# EAGLE library part CY62167EV30 (library pixel)
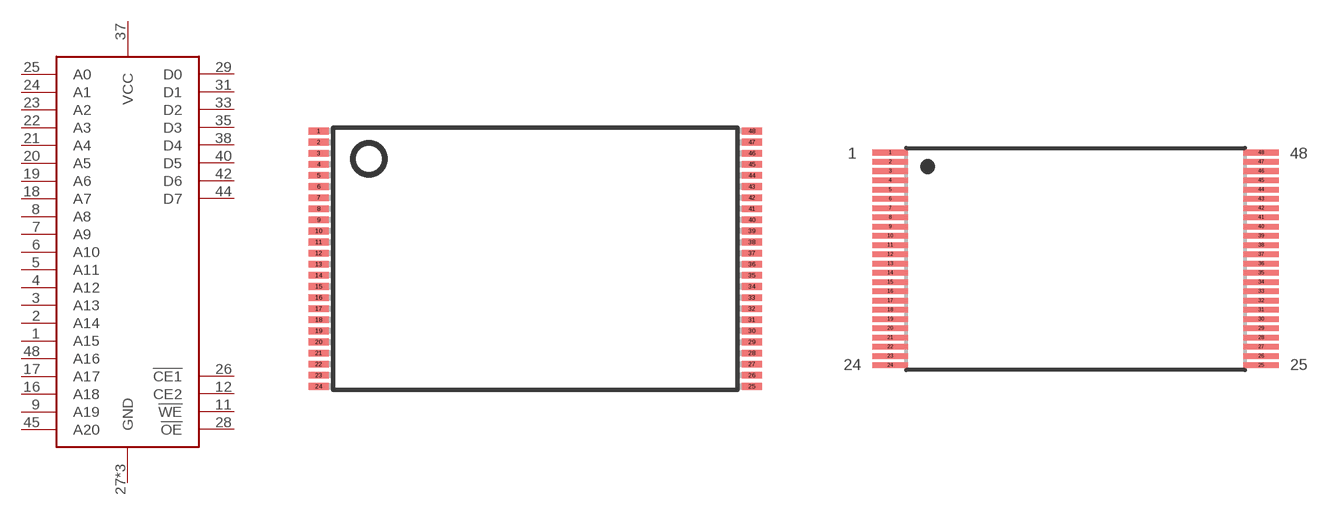
[diagram p0: symbol with the pads of TSOP48; footprints TSOP48, TSOP48-LL]

Designator prefix -

## CY62167EV30  [TSOP48]
1  A15
2  A14
3  A13
4  A12
5  A11
6  A10
7  A9
8  A8
9  A19
11  !WE
12  CE2
16  A18
17  A17
18  A7
19  A6
20  A5
21  A4
22  A3
23  A2
24  A1
25  A0
26  !CE1
27  GND
28  !OE
29  D0
31  D1
33  D2
35  D3
37  VCC
38  D4
40  D5
42  D6
44  D7
45  A20
46  GND
47  GND
48  A16

## CY62167EV30LL  [TSOP48-LL]
Pads as for TSOP48

## Footprint TSOP48 (pad centres in mm)
48-Pin TSOP OCPL Type 1 (WC Package Code) Source: http://download.micron.com/pdf/datasheets/flash/nand/4gb_nand_m40a.pdf
smd 0.9 x 0.3: 1 -9.75,5.75; 2 -9.75,5.25; 3 -9.75,4.75; 4 -9.75,4.25; 5 -9.75,3.75; 6 -9.75,3.25; 7 -9.75,2.75; 8 -9.75,2.25; 9 -9.75,1.75; 10 -9.75,1.25; 11 -9.75,0.75; 12 -9.75,0.25; 13 -9.75,-0.25; 14 -9.75,-0.75; 15 -9.75,-1.25; 16 -9.75,-1.75; 17 -9.75,-2.25; 18 -9.75,-2.75; 19 -9.75,-3.25; 20 -9.75,-3.75; 21 -9.75,-4.25; 22 -9.75,-4.75; 23 -9.75,-5.25; 24 -9.75,-5.75; 25 9.75,-5.75; 26 9.75,-5.25; 27 9.75,-4.75; 28 9.75,-4.25; 29 9.75,-3.75; 30 9.75,-3.25; 31 9.75,-2.75; 32 9.75,-2.25; 33 9.75,-1.75; 34 9.75,-1.25; 35 9.75,-0.75; 36 9.75,-0.25; 37 9.75,0.25; 38 9.75,0.75; 39 9.75,1.25; 40 9.75,1.75; 41 9.75,2.25; 42 9.75,2.75; 43 9.75,3.25; 44 9.75,3.75; 45 9.75,4.25; 46 9.75,4.75; 47 9.75,5.25; 48 9.75,5.75

## Footprint TSOP48-LL (pad centres in mm)
48-Lead Thin Small Outline Package (TSOP) 12mm x 20mm SST Package Code: EK Source: http://www.sst.com/dotAsset/40687.pdf
smd 1.9 x 0.3: 1 -10.025,5.75; 2 -10.025,5.25; 3 -10.025,4.75; 4 -10.025,4.25; 5 -10.025,3.75; 6 -10.025,3.25; 7 -10.025,2.75; 8 -10.025,2.25; 9 -10.025,1.75; 10 -10.025,1.25; 11 -10.025,0.75; 12 -10.025,0.25; 13 -10.025,-0.25; 14 -10.025,-0.75; 15 -10.025,-1.25; 16 -10.025,-1.75; 17 -10.025,-2.25; 18 -10.025,-2.75; 19 -10.025,-3.25; 20 -10.025,-3.75; 21 -10.025,-4.25; 22 -10.025,-4.75; 23 -10.025,-5.25; 24 -10.025,-5.75; 25 10.025,-5.75; 26 10.025,-5.25; 27 10.025,-4.75; 28 10.025,-4.25; 29 10.025,-3.75; 30 10.025,-3.25; 31 10.025,-2.75; 32 10.025,-2.25; 33 10.025,-1.75; 34 10.025,-1.25; 35 10.025,-0.75; 36 10.025,-0.25; 37 10.025,0.25; 38 10.025,0.75; 39 10.025,1.25; 40 10.025,1.75; 41 10.025,2.25; 42 10.025,2.75; 43 10.025,3.25; 44 10.025,3.75; 45 10.025,4.25; 46 10.025,4.75; 47 10.025,5.25; 48 10.025,5.75